# EAGLE library part TE-BARO-SENSOR-MS5611-01BA03 (library custom-ds)
TE Connectivity High Precision Barometric Pressure Sensor.
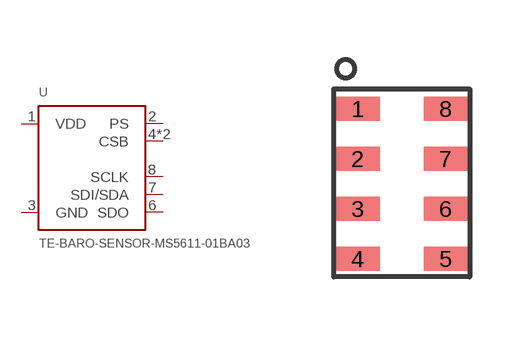
[diagram p8: symbol with the pads of TE-BARO-SENSOR-MS5611-01BA3; footprint TE-BARO-SENSOR-MS5611-01BA3]

Designator prefix U

## TE-BARO-SENSOR-MS5611-01BA03  [TE-BARO-SENSOR-MS5611-01BA3]
1  VDD  pwr
2  PS
3  GND  pwr
4  CSB
5  CSB
6  SDO
7  SDI/SDA
8  SCLK

## Footprint TE-BARO-SENSOR-MS5611-01BA3 (pad centres in mm)
smd 1.1 x 0.6: 1 -1,2; 2 -1,0.75; 3 -1,-0.5; 4 -1,-1.75; 5 1.2,-1.75; 6 1.2,-0.5; 7 1.2,0.75; 8 1.2,2